# Altium integrated library Microchip dsPIC33F.IntLib: 775 symbols (part 5 of 44)
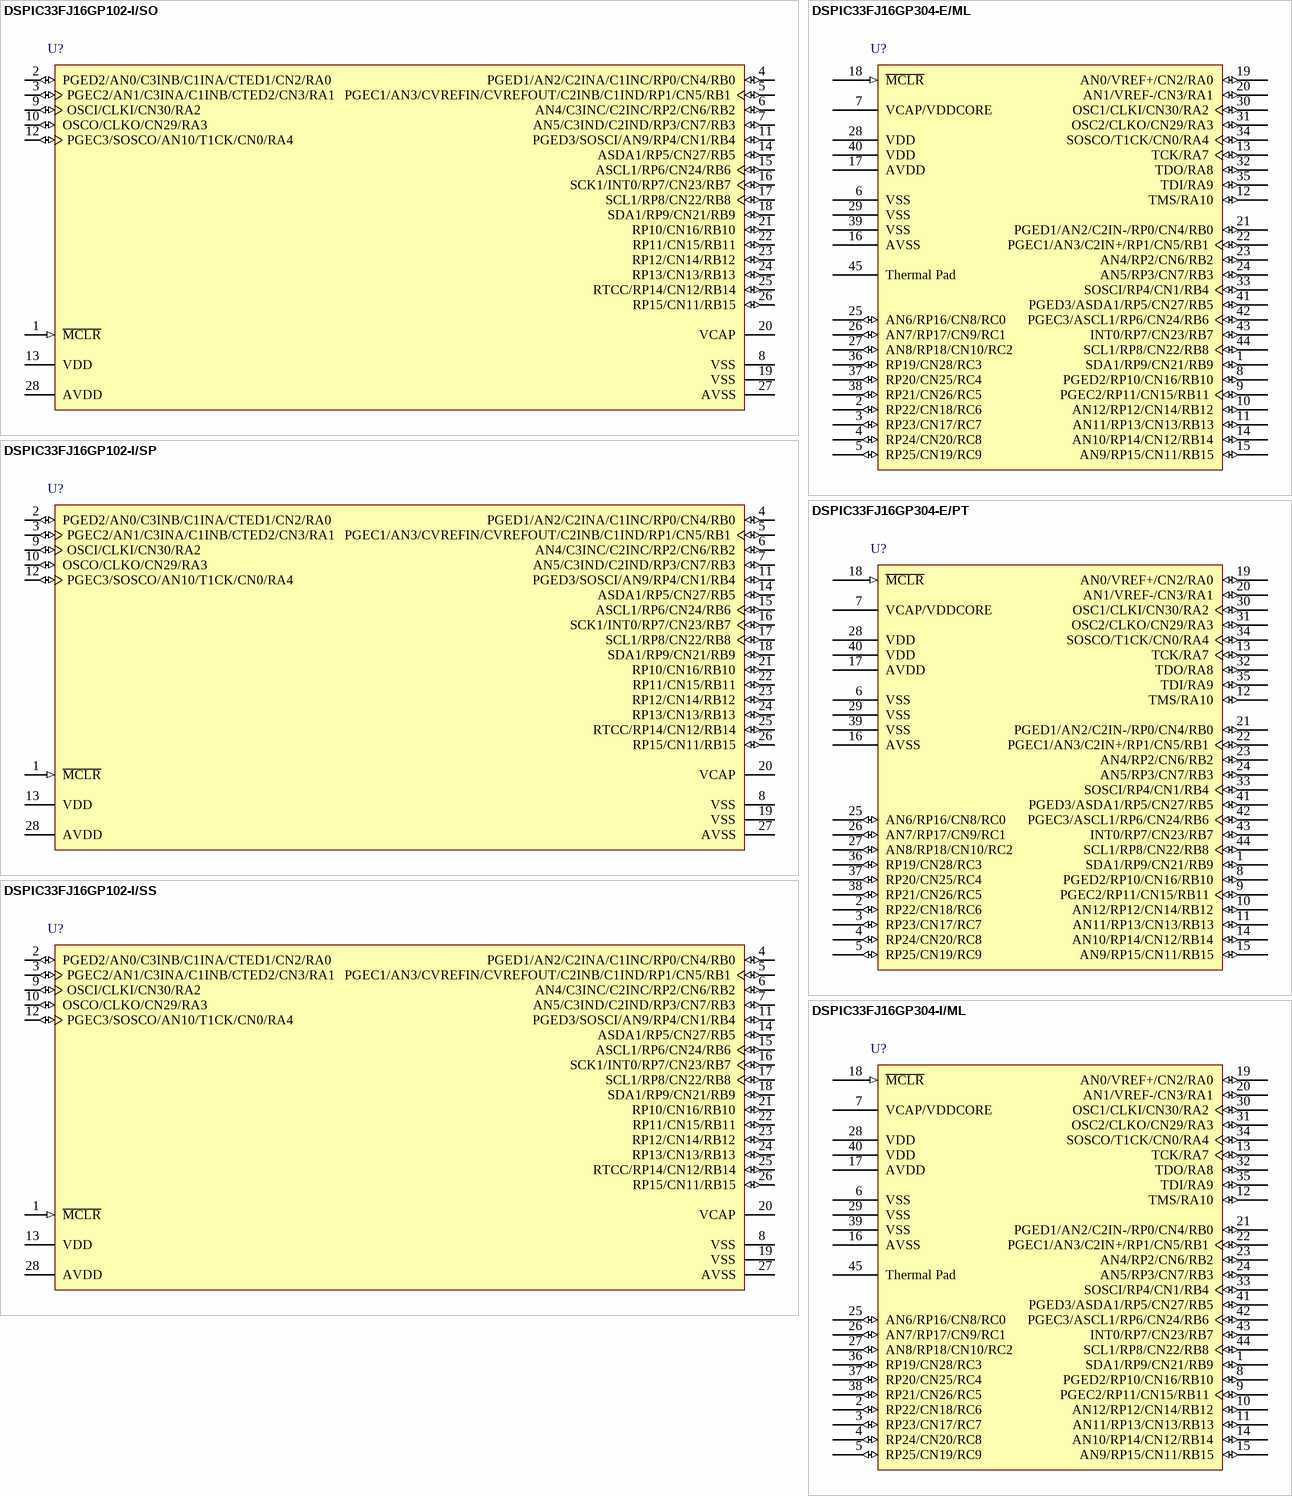
[diagram p162: symbols DSPIC33FJ16GP102-I/SO to DSPIC33FJ16GP304-I/ML]

## DSPIC33FJ16GP102-I/SS
designator U?
16-Bit Digital Signal Controller, 16 MIPS, 21 I/O, PMP16, -40 to 85 degC, 28-pin SSOP (SS28), Tube; Manufacturer: Microchip; PartNumber: DSPIC33FJ16GP102-I/SS; DatasheetVersion: Rev. E; PackageVersion: C04-073B; PackageReference: SSOP-SS28; PackageDescription: 28-Lead Plastic Shrink Small Outline, 10.2 x 5.3 mm Body, 0.65 mm Pitch; Supplier 1: Digi-Key; Supplier Part Number 1: DSPIC33FJ16GP102-I/SS-ND; Supplier 2: Mouser; Supplier Part Number 2: 579-33FJ16GP102ISS; Mounting Technology: Surface Mount; ComponentLink1Description: Manufacturer URL; ComponentLink1URL: http://www.microchip.com; ComponentLink2Description: Datasheet; ComponentLink2URL: http://ww1.microchip.com/downloads/en/DeviceDoc/70652e.pdf; ComponentLink3Description: Package Specification; ComponentLink3URL: http://www.microchip.com/stellent/groups/techpub_sg/documents/packagingspec/en012702.pdf; ComponentLink4Description: Product URL; ComponentLink4URL: http://www.microchip.com/dsPIC33FJ16GP102
footprint MCHP-SSOP-SS28_N (SOP, 28-Leads, Body 10.2x5.3mm, Pitch 0.65mm, IPC Medium Density)
footprint MCHP-SSOP-SS28_L (SOP, 28-Leads, Body 10.2x5.3mm, Pitch 0.65mm, IPC High Density)
footprint MCHP-SSOP-SS28_M (SOP, 28-Leads, Body 10.2x5.3mm, Pitch 0.65mm, IPC Low Density)
pins: 1 ~{MCLR} (in) "Master Clear (Reset) input. This pin is an active-low Reset to the device.", 2 PGED2/AN0/C3INB/C1INA/CTED1/CN2/RA0 (io), 3 PGEC2/AN1/C3INA/C1INB/CTED2/CN3/RA1 (io), 4 PGED1/AN2/C2INA/C1INC/RP0/CN4/RB0 (io), 5 PGEC1/AN3/CVREFIN/CVREFOUT/C2INB/C1IND/RP1/CN5/RB1 (io), 6 AN4/C3INC/C2INC/RP2/CN6/RB2 (io), 7 AN5/C3IND/C2IND/RP3/CN7/RB3 (io), 8 VSS (power) "Ground reference for logic and I/O pins.", 9 OSCI/CLKI/CN30/RA2 (io), 10 OSCO/CLKO/CN29/RA3 (io), 11 PGED3/SOSCI/AN9/RP4/CN1/RB4 (io), 12 PGEC3/SOSCO/AN10/T1CK/CN0/RA4 (io), 13 VDD (power) "Positive supply for peripheral logic and I/O pins.", 14 ASDA1/RP5/CN27/RB5 (io), 15 ASCL1/RP6/CN24/RB6 (io), 16 SCK1/INT0/RP7/CN23/RB7 (io), 17 SCL1/RP8/CN22/RB8 (io), 18 SDA1/RP9/CN21/RB9 (io), 19 VSS (power) "Ground reference for logic and I/O pins.", 20 VCAP "CPU logic filter capacitor connection.", 21 RP10/CN16/RB10 (io), 22 RP11/CN15/RB11 (io), 23 RP12/CN14/RB12 (io), 24 RP13/CN13/RB13 (io), 25 RTCC/RP14/CN12/RB14 (io), 26 RP15/CN11/RB15 (io), 27 AVSS (power) "Ground reference for analog modules. AVSS is connected to VSS in the 18-pin dsPIC33FJXXGP101 and 20-pin dsPIC33FJXXMC101 devices. In all other devices, AVSS is separated from VSS.", 28 AVDD (power) "Positive supply for analog modules. This pin must be connected at all times. AVDD is connected to VDD in the 18-pin dsPIC33FJXXGP101 and 20-pin dsPIC33FJXXMC101 devices. In all other devices, AVDD is separated from VDD."

## DSPIC33FJ16GP304-E/ML
designator U?
High-Performance 16-bit Digital Signal Controller, 16 KB Flash, 2 KB RAM, 44-Pin QFN, Extended High Temperature; Manufacturer: Microchip; PartNumber: DSPIC33FJ16GP304-E/ML; DatasheetVersion: revF, Nov-2009; PackageVersion: revBB, Aug-2009; PackageReference: QFN-ML44; PackageDescription: 44-Lead Plastic Quad Flat, No Lead Package (ML) - 8x8 mm Body [QFN]; Supplier 1: Digi-Key; Supplier Part Number 1: DSPIC33FJ16GP304-E/ML-ND; Supplier 2: Newark; Supplier Part Number 2: 39M8149; Supplier 3: Mouser; Supplier Part Number 3: 579-DSPIC316GP304EML; Mounting Technology: Surface Mount; Code_JEDEC: MO-220; Code_IPC: QFN65P800X800-44V2; ComponentLink1Description: Manufacturer URL; ComponentLink1URL: http://www.microchip.com/; ComponentLink2Description: Datasheet; ComponentLink2URL: http://ww1.microchip.com/downloads/en/DeviceDoc/70290F.pdf; ComponentLink3Description: Package Specification; ComponentLink3URL: http://www.microchip.com/stellent/groups/techpub_sg/documents/packagingspec/en012702.pdf
footprint QFN-ML44_N (QFN, 44-Leads, Body 8x8mm, Pitch 0.65mm, Thermal Pad 6.8x6.8mm, IPC Medium Density)
footprint QFN-ML44_L (QFN, 44-Leads, Body 8x8mm, Pitch 0.65mm, Thermal Pad 6.8x6.8mm, IPC High Density)
footprint QFN-ML44_M (QFN, 44-Leads, Body 8x8mm, Pitch 0.65mm, Thermal Pad 6.8x6.8mm, IPC Low Density)
pins: 1 SDA1/RP9/CN21/RB9 (io), 2 RP22/CN18/RC6 (io), 3 RP23/CN17/RC7 (io), 4 RP24/CN20/RC8 (io), 5 RP25/CN19/RC9 (io), 6 VSS (power), 7 VCAP/VDDCORE (power), 8 PGED2/RP10/CN16/RB10 (io), 9 PGEC2/RP11/CN15/RB11 (io), 10 AN12/RP12/CN14/RB12 (io), 11 AN11/RP13/CN13/RB13 (io), 12 TMS/RA10 (io), 13 TCK/RA7 (io), 14 AN10/RP14/CN12/RB14 (io), 15 AN9/RP15/CN11/RB15 (io), 16 AVSS (power), 17 AVDD (power), 18 ~{MCLR} (in), 19 AN0/VREF+/CN2/RA0 (io), 20 AN1/VREF-/CN3/RA1 (io), 21 PGED1/AN2/C2IN-/RP0/CN4/RB0 (io), 22 PGEC1/AN3/C2IN+/RP1/CN5/RB1 (io), 23 AN4/RP2/CN6/RB2 (io), 24 AN5/RP3/CN7/RB3 (io), 25 AN6/RP16/CN8/RC0 (io), 26 AN7/RP17/CN9/RC1 (io), 27 AN8/RP18/CN10/RC2 (io), 28 VDD (power), 29 VSS (power), 30 OSC1/CLKI/CN30/RA2 (io), 31 OSC2/CLKO/CN29/RA3 (io), 32 TDO/RA8 (io), 33 SOSCI/RP4/CN1/RB4 (io), 34 SOSCO/T1CK/CN0/RA4 (io), 35 TDI/RA9 (io), 36 RP19/CN28/RC3 (io), 37 RP20/CN25/RC4 (io), 38 RP21/CN26/RC5 (io), 39 VSS (power), 40 VDD (power), 41 PGED3/ASDA1/RP5/CN27/RB5 (io), 42 PGEC3/ASCL1/RP6/CN24/RB6 (io), 43 INT0/RP7/CN23/RB7 (io), 44 SCL1/RP8/CN22/RB8 (io), 45 Thermal Pad

## DSPIC33FJ16GP304-E/PT
designator U?
High-Performance 16-bit Digital Signal Controller, 16 KB Flash, 2 KB RAM, 44-Pin TQFP, Extended High Temperature; Manufacturer: Microchip; PartNumber: DSPIC33FJ16GP304-E/PT; DatasheetVersion: revF, Nov-2009; PackageVersion: revBB, Aug-2009; PackageReference: TQFP-PT44; PackageDescription: 44-Lead Plastic Thin Quad Flatpack (PT) - 10x10x1mm Body, 2.00mm [TQFP]; Supplier 1: Digi-Key; Supplier Part Number 1: DSPIC33FJ16GP304-E/PT-ND; Supplier 2: Mouser; Supplier Part Number 2: 579-DSPIC316GP304EPT; Mounting Technology: Surface Mount; Code_JEDEC: MS-026; ComponentLink1Description: Manufacturer URL; ComponentLink1URL: http://www.microchip.com/; ComponentLink2Description: Datasheet; ComponentLink2URL: http://ww1.microchip.com/downloads/en/DeviceDoc/70290F.pdf; ComponentLink3Description: Package Specification; ComponentLink3URL: http://www.microchip.com/stellent/groups/techpub_sg/documents/packagingspec/en012702.pdf
footprint TQFP-PT44_N (Thin QFP, 44-Leads, Body 10x10mm, Pitch 0.8mm, IPC Medium Density)
footprint TQFP-PT44_L (Thin QFP, 44-Leads, Body 10x10mm, Pitch 0.8mm, IPC High Density)
footprint TQFP-PT44_M (Thin QFP, 44-Leads, Body 10x10mm, Pitch 0.8mm, IPC Low Density)
pins: 1 SDA1/RP9/CN21/RB9 (io), 2 RP22/CN18/RC6 (io), 3 RP23/CN17/RC7 (io), 4 RP24/CN20/RC8 (io), 5 RP25/CN19/RC9 (io), 6 VSS (power), 7 VCAP/VDDCORE (power), 8 PGED2/RP10/CN16/RB10 (io), 9 PGEC2/RP11/CN15/RB11 (io), 10 AN12/RP12/CN14/RB12 (io), 11 AN11/RP13/CN13/RB13 (io), 12 TMS/RA10 (io), 13 TCK/RA7 (io), 14 AN10/RP14/CN12/RB14 (io), 15 AN9/RP15/CN11/RB15 (io), 16 AVSS (power), 17 AVDD (power), 18 ~{MCLR} (in), 19 AN0/VREF+/CN2/RA0 (io), 20 AN1/VREF-/CN3/RA1 (io), 21 PGED1/AN2/C2IN-/RP0/CN4/RB0 (io), 22 PGEC1/AN3/C2IN+/RP1/CN5/RB1 (io), 23 AN4/RP2/CN6/RB2 (io), 24 AN5/RP3/CN7/RB3 (io), 25 AN6/RP16/CN8/RC0 (io), 26 AN7/RP17/CN9/RC1 (io), 27 AN8/RP18/CN10/RC2 (io), 28 VDD (power), 29 VSS (power), 30 OSC1/CLKI/CN30/RA2 (io), 31 OSC2/CLKO/CN29/RA3 (io), 32 TDO/RA8 (io), 33 SOSCI/RP4/CN1/RB4 (io), 34 SOSCO/T1CK/CN0/RA4 (io), 35 TDI/RA9 (io), 36 RP19/CN28/RC3 (io), 37 RP20/CN25/RC4 (io), 38 RP21/CN26/RC5 (io), 39 VSS (power), 40 VDD (power), 41 PGED3/ASDA1/RP5/CN27/RB5 (io), 42 PGEC3/ASCL1/RP6/CN24/RB6 (io), 43 INT0/RP7/CN23/RB7 (io), 44 SCL1/RP8/CN22/RB8 (io)

## DSPIC33FJ16GP304-I/ML
designator U?
High-Performance 16-bit Digital Signal Controller, 16 KB Flash, 2 KB RAM, 44-Pin QFN, Industrial Temperature; Manufacturer: Microchip; PartNumber: DSPIC33FJ16GP304-I/ML; DatasheetVersion: revF, Nov-2009; PackageVersion: revBB, Aug-2009; PackageReference: QFN-ML44; PackageDescription: 44-Lead Plastic Quad Flat, No Lead Package (ML) - 8x8 mm Body [QFN]; Supplier 1: Digi-Key; Supplier Part Number 1: DSPIC33FJ16GP304-I/ML-ND; Supplier 2: Farnell; Supplier Part Number 2: 1576907; Supplier 3: Newark; Supplier Part Number 3: 39M8151; Supplier 4: Mouser; Supplier Part Number 4: 579-DSPICJ16GP304IML; Mounting Technology: Surface Mount; Code_JEDEC: MO-220; Code_IPC: QFN65P800X800-44V2; ComponentLink1Description: Manufacturer URL; ComponentLink1URL: http://www.microchip.com/; ComponentLink2Description: Datasheet; ComponentLink2URL: http://ww1.microchip.com/downloads/en/DeviceDoc/70290F.pdf; ComponentLink3Description: Package Specification; ComponentLink3URL: http://www.microchip.com/stellent/groups/techpub_sg/documents/packagingspec/en012702.pdf
footprint QFN-ML44_N (QFN, 44-Leads, Body 8x8mm, Pitch 0.65mm, Thermal Pad 6.8x6.8mm, IPC Medium Density)
footprint QFN-ML44_L (QFN, 44-Leads, Body 8x8mm, Pitch 0.65mm, Thermal Pad 6.8x6.8mm, IPC High Density)
footprint QFN-ML44_M (QFN, 44-Leads, Body 8x8mm, Pitch 0.65mm, Thermal Pad 6.8x6.8mm, IPC Low Density)
pins: 1 SDA1/RP9/CN21/RB9 (io), 2 RP22/CN18/RC6 (io), 3 RP23/CN17/RC7 (io), 4 RP24/CN20/RC8 (io), 5 RP25/CN19/RC9 (io), 6 VSS (power), 7 VCAP/VDDCORE (power), 8 PGED2/RP10/CN16/RB10 (io), 9 PGEC2/RP11/CN15/RB11 (io), 10 AN12/RP12/CN14/RB12 (io), 11 AN11/RP13/CN13/RB13 (io), 12 TMS/RA10 (io), 13 TCK/RA7 (io), 14 AN10/RP14/CN12/RB14 (io), 15 AN9/RP15/CN11/RB15 (io), 16 AVSS (power), 17 AVDD (power), 18 ~{MCLR} (in), 19 AN0/VREF+/CN2/RA0 (io), 20 AN1/VREF-/CN3/RA1 (io), 21 PGED1/AN2/C2IN-/RP0/CN4/RB0 (io), 22 PGEC1/AN3/C2IN+/RP1/CN5/RB1 (io), 23 AN4/RP2/CN6/RB2 (io), 24 AN5/RP3/CN7/RB3 (io), 25 AN6/RP16/CN8/RC0 (io), 26 AN7/RP17/CN9/RC1 (io), 27 AN8/RP18/CN10/RC2 (io), 28 VDD (power), 29 VSS (power), 30 OSC1/CLKI/CN30/RA2 (io), 31 OSC2/CLKO/CN29/RA3 (io), 32 TDO/RA8 (io), 33 SOSCI/RP4/CN1/RB4 (io), 34 SOSCO/T1CK/CN0/RA4 (io), 35 TDI/RA9 (io), 36 RP19/CN28/RC3 (io), 37 RP20/CN25/RC4 (io), 38 RP21/CN26/RC5 (io), 39 VSS (power), 40 VDD (power), 41 PGED3/ASDA1/RP5/CN27/RB5 (io), 42 PGEC3/ASCL1/RP6/CN24/RB6 (io), 43 INT0/RP7/CN23/RB7 (io), 44 SCL1/RP8/CN22/RB8 (io), 45 Thermal Pad

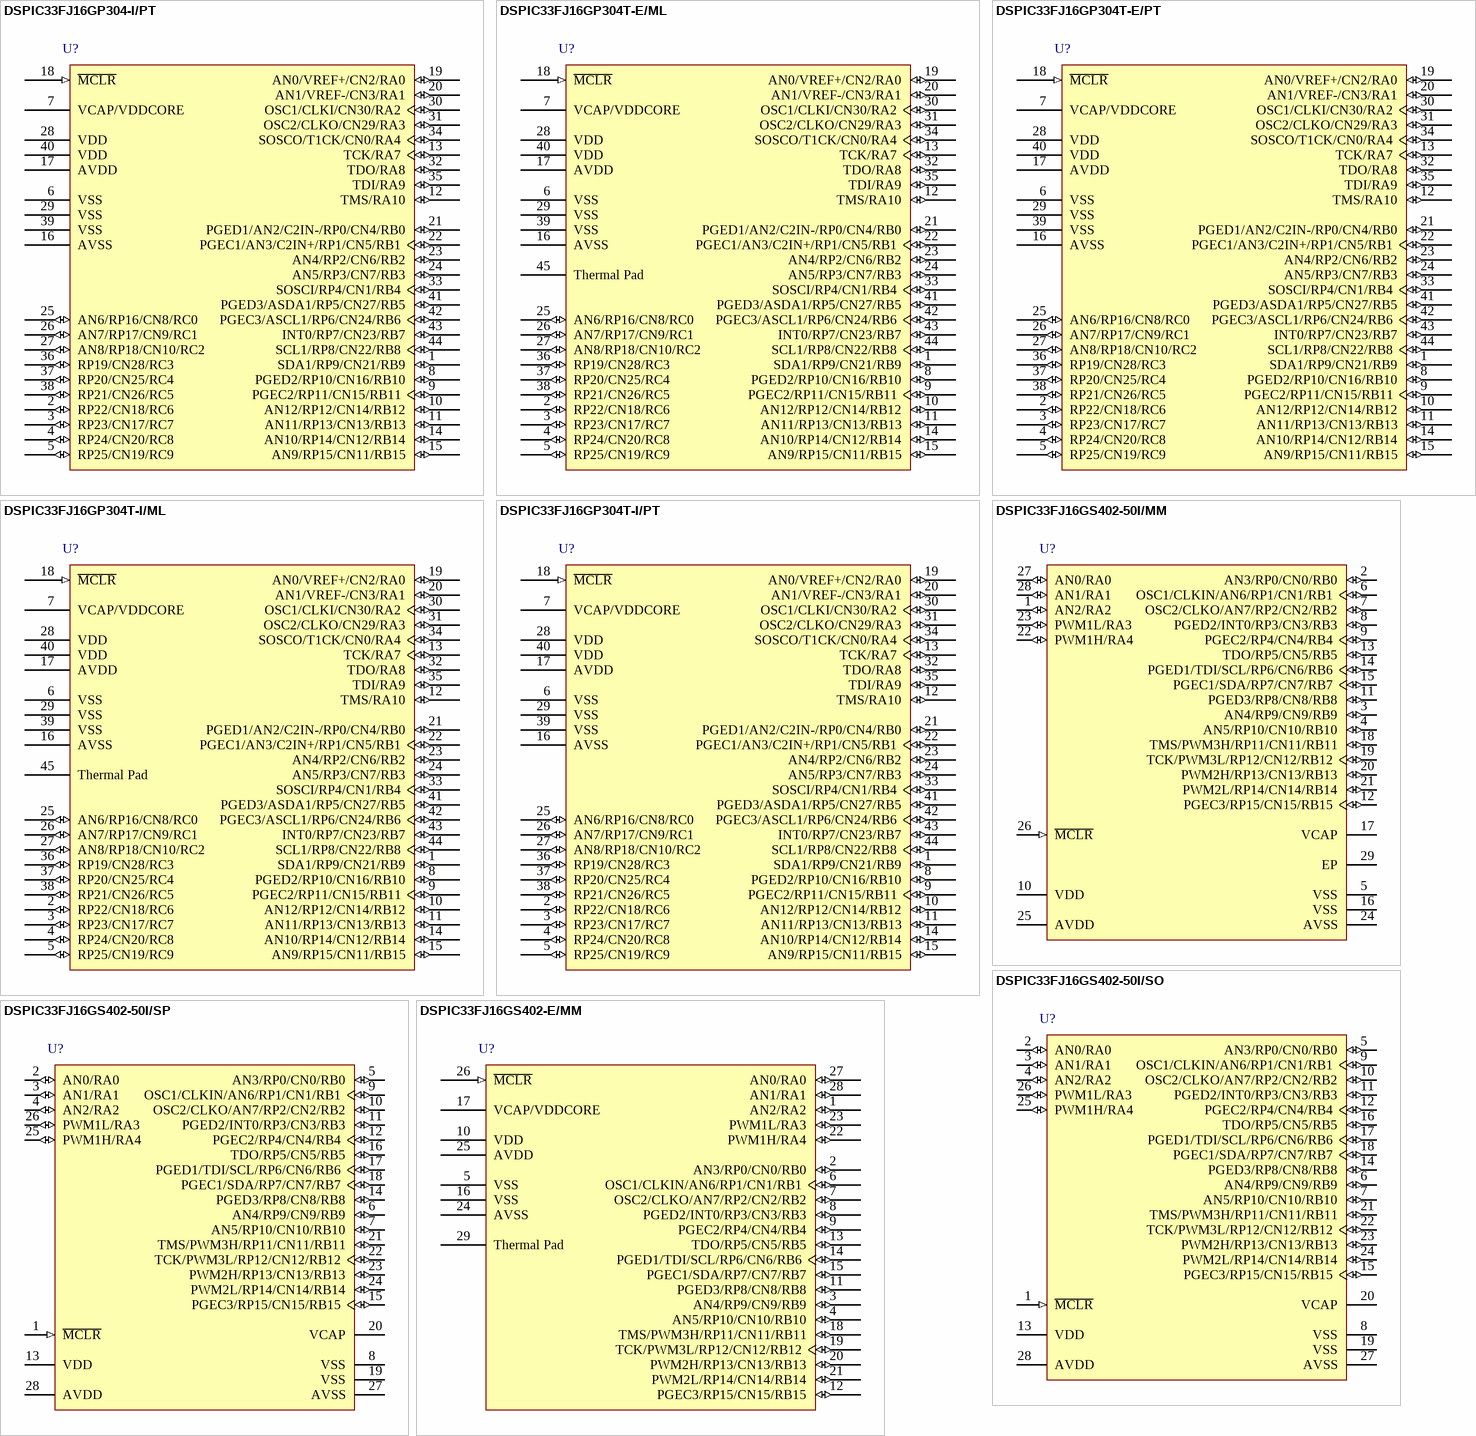
[diagram p11: symbols DSPIC33FJ16GP304-I/PT to DSPIC33FJ16GS402-E/MM]

## DSPIC33FJ16GP304-I/PT
designator U?
High-Performance 16-bit Digital Signal Controller, 16 KB Flash, 2 KB RAM, 44-Pin TQFP, Industrial Temperature; Manufacturer: Microchip; PartNumber: DSPIC33FJ16GP304-I/PT; DatasheetVersion: revF, Nov-2009; PackageVersion: revBB, Aug-2009; PackageReference: TQFP-PT44; PackageDescription: 44-Lead Plastic Thin Quad Flatpack (PT) - 10x10x1mm Body, 2.00mm [TQFP]; Supplier 1: Digi-Key; Supplier Part Number 1: DSPIC33FJ16GP304-I/PT-ND; Supplier 2: Farnell; Supplier Part Number 2: 1576908MPKG; Supplier 3: Farnell; Supplier Part Number 3: 1576908; Supplier 4: Newark; Supplier Part Number 4: 39M8152; Supplier 5: Mouser; Supplier Part Number 5: 579-DSPICJ16GP304IPT; Mounting Technology: Surface Mount; Code_JEDEC: MS-026; ComponentLink1Description: Manufacturer URL; ComponentLink1URL: http://www.microchip.com/; ComponentLink2Description: Datasheet; ComponentLink2URL: http://ww1.microchip.com/downloads/en/DeviceDoc/70290F.pdf; ComponentLink3Description: Package Specification; ComponentLink3URL: http://www.microchip.com/stellent/groups/techpub_sg/documents/packagingspec/en012702.pdf
footprint TQFP-PT44_N (Thin QFP, 44-Leads, Body 10x10mm, Pitch 0.8mm, IPC Medium Density)
footprint TQFP-PT44_L (Thin QFP, 44-Leads, Body 10x10mm, Pitch 0.8mm, IPC High Density)
footprint TQFP-PT44_M (Thin QFP, 44-Leads, Body 10x10mm, Pitch 0.8mm, IPC Low Density)
pins: 1 SDA1/RP9/CN21/RB9 (io), 2 RP22/CN18/RC6 (io), 3 RP23/CN17/RC7 (io), 4 RP24/CN20/RC8 (io), 5 RP25/CN19/RC9 (io), 6 VSS (power), 7 VCAP/VDDCORE (power), 8 PGED2/RP10/CN16/RB10 (io), 9 PGEC2/RP11/CN15/RB11 (io), 10 AN12/RP12/CN14/RB12 (io), 11 AN11/RP13/CN13/RB13 (io), 12 TMS/RA10 (io), 13 TCK/RA7 (io), 14 AN10/RP14/CN12/RB14 (io), 15 AN9/RP15/CN11/RB15 (io), 16 AVSS (power), 17 AVDD (power), 18 ~{MCLR} (in), 19 AN0/VREF+/CN2/RA0 (io), 20 AN1/VREF-/CN3/RA1 (io), 21 PGED1/AN2/C2IN-/RP0/CN4/RB0 (io), 22 PGEC1/AN3/C2IN+/RP1/CN5/RB1 (io), 23 AN4/RP2/CN6/RB2 (io), 24 AN5/RP3/CN7/RB3 (io), 25 AN6/RP16/CN8/RC0 (io), 26 AN7/RP17/CN9/RC1 (io), 27 AN8/RP18/CN10/RC2 (io), 28 VDD (power), 29 VSS (power), 30 OSC1/CLKI/CN30/RA2 (io), 31 OSC2/CLKO/CN29/RA3 (io), 32 TDO/RA8 (io), 33 SOSCI/RP4/CN1/RB4 (io), 34 SOSCO/T1CK/CN0/RA4 (io), 35 TDI/RA9 (io), 36 RP19/CN28/RC3 (io), 37 RP20/CN25/RC4 (io), 38 RP21/CN26/RC5 (io), 39 VSS (power), 40 VDD (power), 41 PGED3/ASDA1/RP5/CN27/RB5 (io), 42 PGEC3/ASCL1/RP6/CN24/RB6 (io), 43 INT0/RP7/CN23/RB7 (io), 44 SCL1/RP8/CN22/RB8 (io)

## DSPIC33FJ16GP304T-E/ML
designator U?
High-Performance 16-bit Digital Signal Controller, 16 KB Flash, 2 KB RAM, 44-Pin QFN, Extended High Temperature, Tape and Reel; Manufacturer: Microchip; PartNumber: DSPIC33FJ16GP304T-E/ML; DatasheetVersion: revF, Nov-2009; PackageVersion: revBB, Aug-2009; PackageReference: QFN-ML44; PackageDescription: 44-Lead Plastic Quad Flat, No Lead Package (ML) - 8x8 mm Body [QFN]; Mounting Technology: Surface Mount; Code_JEDEC: MO-220; Code_IPC: QFN65P800X800-44V2; ComponentLink1Description: Manufacturer URL; ComponentLink1URL: http://www.microchip.com/; ComponentLink2Description: Datasheet; ComponentLink2URL: http://ww1.microchip.com/downloads/en/DeviceDoc/70290F.pdf; ComponentLink3Description: Package Specification; ComponentLink3URL: http://www.microchip.com/stellent/groups/techpub_sg/documents/packagingspec/en012702.pdf
footprint QFN-ML44_N (QFN, 44-Leads, Body 8x8mm, Pitch 0.65mm, Thermal Pad 6.8x6.8mm, IPC Medium Density)
footprint QFN-ML44_L (QFN, 44-Leads, Body 8x8mm, Pitch 0.65mm, Thermal Pad 6.8x6.8mm, IPC High Density)
footprint QFN-ML44_M (QFN, 44-Leads, Body 8x8mm, Pitch 0.65mm, Thermal Pad 6.8x6.8mm, IPC Low Density)
pins: 1 SDA1/RP9/CN21/RB9 (io), 2 RP22/CN18/RC6 (io), 3 RP23/CN17/RC7 (io), 4 RP24/CN20/RC8 (io), 5 RP25/CN19/RC9 (io), 6 VSS (power), 7 VCAP/VDDCORE (power), 8 PGED2/RP10/CN16/RB10 (io), 9 PGEC2/RP11/CN15/RB11 (io), 10 AN12/RP12/CN14/RB12 (io), 11 AN11/RP13/CN13/RB13 (io), 12 TMS/RA10 (io), 13 TCK/RA7 (io), 14 AN10/RP14/CN12/RB14 (io), 15 AN9/RP15/CN11/RB15 (io), 16 AVSS (power), 17 AVDD (power), 18 ~{MCLR} (in), 19 AN0/VREF+/CN2/RA0 (io), 20 AN1/VREF-/CN3/RA1 (io), 21 PGED1/AN2/C2IN-/RP0/CN4/RB0 (io), 22 PGEC1/AN3/C2IN+/RP1/CN5/RB1 (io), 23 AN4/RP2/CN6/RB2 (io), 24 AN5/RP3/CN7/RB3 (io), 25 AN6/RP16/CN8/RC0 (io), 26 AN7/RP17/CN9/RC1 (io), 27 AN8/RP18/CN10/RC2 (io), 28 VDD (power), 29 VSS (power), 30 OSC1/CLKI/CN30/RA2 (io), 31 OSC2/CLKO/CN29/RA3 (io), 32 TDO/RA8 (io), 33 SOSCI/RP4/CN1/RB4 (io), 34 SOSCO/T1CK/CN0/RA4 (io), 35 TDI/RA9 (io), 36 RP19/CN28/RC3 (io), 37 RP20/CN25/RC4 (io), 38 RP21/CN26/RC5 (io), 39 VSS (power), 40 VDD (power), 41 PGED3/ASDA1/RP5/CN27/RB5 (io), 42 PGEC3/ASCL1/RP6/CN24/RB6 (io), 43 INT0/RP7/CN23/RB7 (io), 44 SCL1/RP8/CN22/RB8 (io), 45 Thermal Pad

## DSPIC33FJ16GP304T-E/PT
designator U?
High-Performance 16-bit Digital Signal Controller, 16 KB Flash, 2 KB RAM, 44-Pin TQFP, Extended High Temperature, Tape and Reel; Manufacturer: Microchip; PartNumber: DSPIC33FJ16GP304T-E/PT; DatasheetVersion: revF, Nov-2009; PackageVersion: revBB, Aug-2009; PackageReference: TQFP-PT44; PackageDescription: 44-Lead Plastic Thin Quad Flatpack (PT) - 10x10x1mm Body, 2.00mm [TQFP]; Mounting Technology: Surface Mount; Code_JEDEC: MS-026; ComponentLink1Description: Manufacturer URL; ComponentLink1URL: http://www.microchip.com/; ComponentLink2Description: Datasheet; ComponentLink2URL: http://ww1.microchip.com/downloads/en/DeviceDoc/70290F.pdf; ComponentLink3Description: Package Specification; ComponentLink3URL: http://www.microchip.com/stellent/groups/techpub_sg/documents/packagingspec/en012702.pdf
footprint TQFP-PT44_N (Thin QFP, 44-Leads, Body 10x10mm, Pitch 0.8mm, IPC Medium Density)
footprint TQFP-PT44_L (Thin QFP, 44-Leads, Body 10x10mm, Pitch 0.8mm, IPC High Density)
footprint TQFP-PT44_M (Thin QFP, 44-Leads, Body 10x10mm, Pitch 0.8mm, IPC Low Density)
pins: 1 SDA1/RP9/CN21/RB9 (io), 2 RP22/CN18/RC6 (io), 3 RP23/CN17/RC7 (io), 4 RP24/CN20/RC8 (io), 5 RP25/CN19/RC9 (io), 6 VSS (power), 7 VCAP/VDDCORE (power), 8 PGED2/RP10/CN16/RB10 (io), 9 PGEC2/RP11/CN15/RB11 (io), 10 AN12/RP12/CN14/RB12 (io), 11 AN11/RP13/CN13/RB13 (io), 12 TMS/RA10 (io), 13 TCK/RA7 (io), 14 AN10/RP14/CN12/RB14 (io), 15 AN9/RP15/CN11/RB15 (io), 16 AVSS (power), 17 AVDD (power), 18 ~{MCLR} (in), 19 AN0/VREF+/CN2/RA0 (io), 20 AN1/VREF-/CN3/RA1 (io), 21 PGED1/AN2/C2IN-/RP0/CN4/RB0 (io), 22 PGEC1/AN3/C2IN+/RP1/CN5/RB1 (io), 23 AN4/RP2/CN6/RB2 (io), 24 AN5/RP3/CN7/RB3 (io), 25 AN6/RP16/CN8/RC0 (io), 26 AN7/RP17/CN9/RC1 (io), 27 AN8/RP18/CN10/RC2 (io), 28 VDD (power), 29 VSS (power), 30 OSC1/CLKI/CN30/RA2 (io), 31 OSC2/CLKO/CN29/RA3 (io), 32 TDO/RA8 (io), 33 SOSCI/RP4/CN1/RB4 (io), 34 SOSCO/T1CK/CN0/RA4 (io), 35 TDI/RA9 (io), 36 RP19/CN28/RC3 (io), 37 RP20/CN25/RC4 (io), 38 RP21/CN26/RC5 (io), 39 VSS (power), 40 VDD (power), 41 PGED3/ASDA1/RP5/CN27/RB5 (io), 42 PGEC3/ASCL1/RP6/CN24/RB6 (io), 43 INT0/RP7/CN23/RB7 (io), 44 SCL1/RP8/CN22/RB8 (io)

## DSPIC33FJ16GP304T-I/ML
designator U?
High-Performance 16-bit Digital Signal Controller, 16 KB Flash, 2 KB RAM, 44-Pin QFN, Industrial Temperature, Tape and Reel; Manufacturer: Microchip; PartNumber: DSPIC33FJ16GP304T-I/ML; DatasheetVersion: revF, Nov-2009; PackageVersion: revBB, Aug-2009; PackageReference: QFN-ML44; PackageDescription: 44-Lead Plastic Quad Flat, No Lead Package (ML) - 8x8 mm Body [QFN]; Supplier 1: Digi-Key; Supplier Part Number 1: DSPIC33FJ16GP304T-I/MLTR-ND; Supplier 2: Mouser; Supplier Part Number 2: 579-DSPIC16GP304TIML; Mounting Technology: Surface Mount; Code_JEDEC: MO-220; Code_IPC: QFN65P800X800-44V2; ComponentLink1Description: Manufacturer URL; ComponentLink1URL: http://www.microchip.com/; ComponentLink2Description: Datasheet; ComponentLink2URL: http://ww1.microchip.com/downloads/en/DeviceDoc/70290F.pdf; ComponentLink3Description: Package Specification; ComponentLink3URL: http://www.microchip.com/stellent/groups/techpub_sg/documents/packagingspec/en012702.pdf
footprint QFN-ML44_N (QFN, 44-Leads, Body 8x8mm, Pitch 0.65mm, Thermal Pad 6.8x6.8mm, IPC Medium Density)
footprint QFN-ML44_L (QFN, 44-Leads, Body 8x8mm, Pitch 0.65mm, Thermal Pad 6.8x6.8mm, IPC High Density)
footprint QFN-ML44_M (QFN, 44-Leads, Body 8x8mm, Pitch 0.65mm, Thermal Pad 6.8x6.8mm, IPC Low Density)
pins: 1 SDA1/RP9/CN21/RB9 (io), 2 RP22/CN18/RC6 (io), 3 RP23/CN17/RC7 (io), 4 RP24/CN20/RC8 (io), 5 RP25/CN19/RC9 (io), 6 VSS (power), 7 VCAP/VDDCORE (power), 8 PGED2/RP10/CN16/RB10 (io), 9 PGEC2/RP11/CN15/RB11 (io), 10 AN12/RP12/CN14/RB12 (io), 11 AN11/RP13/CN13/RB13 (io), 12 TMS/RA10 (io), 13 TCK/RA7 (io), 14 AN10/RP14/CN12/RB14 (io), 15 AN9/RP15/CN11/RB15 (io), 16 AVSS (power), 17 AVDD (power), 18 ~{MCLR} (in), 19 AN0/VREF+/CN2/RA0 (io), 20 AN1/VREF-/CN3/RA1 (io), 21 PGED1/AN2/C2IN-/RP0/CN4/RB0 (io), 22 PGEC1/AN3/C2IN+/RP1/CN5/RB1 (io), 23 AN4/RP2/CN6/RB2 (io), 24 AN5/RP3/CN7/RB3 (io), 25 AN6/RP16/CN8/RC0 (io), 26 AN7/RP17/CN9/RC1 (io), 27 AN8/RP18/CN10/RC2 (io), 28 VDD (power), 29 VSS (power), 30 OSC1/CLKI/CN30/RA2 (io), 31 OSC2/CLKO/CN29/RA3 (io), 32 TDO/RA8 (io), 33 SOSCI/RP4/CN1/RB4 (io), 34 SOSCO/T1CK/CN0/RA4 (io), 35 TDI/RA9 (io), 36 RP19/CN28/RC3 (io), 37 RP20/CN25/RC4 (io), 38 RP21/CN26/RC5 (io), 39 VSS (power), 40 VDD (power), 41 PGED3/ASDA1/RP5/CN27/RB5 (io), 42 PGEC3/ASCL1/RP6/CN24/RB6 (io), 43 INT0/RP7/CN23/RB7 (io), 44 SCL1/RP8/CN22/RB8 (io), 45 Thermal Pad

## DSPIC33FJ16GP304T-I/PT
designator U?
High-Performance 16-bit Digital Signal Controller, 16 KB Flash, 2 KB RAM, 44-Pin TQFP, Industrial Temperature, Tape and Reel; Manufacturer: Microchip; PartNumber: DSPIC33FJ16GP304T-I/PT; DatasheetVersion: revF, Nov-2009; PackageVersion: revBB, Aug-2009; PackageReference: TQFP-PT44; PackageDescription: 44-Lead Plastic Thin Quad Flatpack (PT) - 10x10x1mm Body, 2.00mm [TQFP]; Supplier 1: Digi-Key; Supplier Part Number 1: DSPIC33FJ16GP304T-I/PTTR-ND; Supplier 2: Mouser; Supplier Part Number 2: 579-DSPIC16GP304TIPT; Mounting Technology: Surface Mount; Code_JEDEC: MS-026; ComponentLink1Description: Manufacturer URL; ComponentLink1URL: http://www.microchip.com/; ComponentLink2Description: Datasheet; ComponentLink2URL: http://ww1.microchip.com/downloads/en/DeviceDoc/70290F.pdf; ComponentLink3Description: Package Specification; ComponentLink3URL: http://www.microchip.com/stellent/groups/techpub_sg/documents/packagingspec/en012702.pdf
footprint TQFP-PT44_N (Thin QFP, 44-Leads, Body 10x10mm, Pitch 0.8mm, IPC Medium Density)
footprint TQFP-PT44_L (Thin QFP, 44-Leads, Body 10x10mm, Pitch 0.8mm, IPC High Density)
footprint TQFP-PT44_M (Thin QFP, 44-Leads, Body 10x10mm, Pitch 0.8mm, IPC Low Density)
pins: 1 SDA1/RP9/CN21/RB9 (io), 2 RP22/CN18/RC6 (io), 3 RP23/CN17/RC7 (io), 4 RP24/CN20/RC8 (io), 5 RP25/CN19/RC9 (io), 6 VSS (power), 7 VCAP/VDDCORE (power), 8 PGED2/RP10/CN16/RB10 (io), 9 PGEC2/RP11/CN15/RB11 (io), 10 AN12/RP12/CN14/RB12 (io), 11 AN11/RP13/CN13/RB13 (io), 12 TMS/RA10 (io), 13 TCK/RA7 (io), 14 AN10/RP14/CN12/RB14 (io), 15 AN9/RP15/CN11/RB15 (io), 16 AVSS (power), 17 AVDD (power), 18 ~{MCLR} (in), 19 AN0/VREF+/CN2/RA0 (io), 20 AN1/VREF-/CN3/RA1 (io), 21 PGED1/AN2/C2IN-/RP0/CN4/RB0 (io), 22 PGEC1/AN3/C2IN+/RP1/CN5/RB1 (io), 23 AN4/RP2/CN6/RB2 (io), 24 AN5/RP3/CN7/RB3 (io), 25 AN6/RP16/CN8/RC0 (io), 26 AN7/RP17/CN9/RC1 (io), 27 AN8/RP18/CN10/RC2 (io), 28 VDD (power), 29 VSS (power), 30 OSC1/CLKI/CN30/RA2 (io), 31 OSC2/CLKO/CN29/RA3 (io), 32 TDO/RA8 (io), 33 SOSCI/RP4/CN1/RB4 (io), 34 SOSCO/T1CK/CN0/RA4 (io), 35 TDI/RA9 (io), 36 RP19/CN28/RC3 (io), 37 RP20/CN25/RC4 (io), 38 RP21/CN26/RC5 (io), 39 VSS (power), 40 VDD (power), 41 PGED3/ASDA1/RP5/CN27/RB5 (io), 42 PGEC3/ASCL1/RP6/CN24/RB6 (io), 43 INT0/RP7/CN23/RB7 (io), 44 SCL1/RP8/CN22/RB8 (io)

## DSPIC33FJ16GS402-50I/MM
designator U?
16-Bit Digital Signal Controller with High-Speed PWM, ADC, 50 MIPS, 21 I/O, GPIO, -40 to 85 degC, 28-pin QFN (MM28), Tube; Manufacturer: Microchip; PartNumber: DSPIC33FJ16GS402-50I/MM; DatasheetVersion: Rev. F; PackageVersion: C04-124C; PackageReference: QFN-MM28; PackageDescription: 28-Lead Plastic Quad Flat, 6 x 6 mm Body, 0.65 mm Pitch; Supplier 1: Digi-Key; Supplier Part Number 1: DSPIC33FJ16GS402-50I/MM-ND; Supplier 2: Mouser; Supplier Part Number 2: 579-33F16GS40250IMM; Mounting Technology: Surface Mount; ComponentLink1Description: Manufacturer URL; ComponentLink1URL: http://www.microchip.com; ComponentLink2Description: Datasheet; ComponentLink2URL: http://ww1.microchip.com/downloads/en/DeviceDoc/70318F.pdf; ComponentLink3Description: Package Specification; ComponentLink3URL: http://www.microchip.com/stellent/groups/techpub_sg/documents/packagingspec/en012702.pdf; ComponentLink4Description: Product URL; ComponentLink4URL: http://www.microchip.com/dsPIC33FJ16GS402
footprint MCHP-QFN-S-MM28_N (QFN, 28-Leads, Body 6x6mm, Pitch 0.65mm, Thermal Pad 4.175x4.175mm, IPC Medium Density)
footprint MCHP-QFN-S-MM28_L (QFN, 28-Leads, Body 6x6mm, Pitch 0.65mm, Thermal Pad 4.175x4.175mm, IPC High Density)
footprint MCHP-QFN-S-MM28_M (QFN, 28-Leads, Body 6x6mm, Pitch 0.65mm, Thermal Pad 4.175x4.175mm, IPC Low Density)
pins: 1 AN2/RA2 (io), 2 AN3/RP0/CN0/RB0 (io), 3 AN4/RP9/CN9/RB9 (io), 4 AN5/RP10/CN10/RB10 (io), 5 VSS (power) "Ground reference for logic and I/O pins.", 6 OSC1/CLKIN/AN6/RP1/CN1/RB1 (io), 7 OSC2/CLKO/AN7/RP2/CN2/RB2 (io), 8 PGED2/INT0/RP3/CN3/RB3 (io), 9 PGEC2/RP4/CN4/RB4 (io), 10 VDD (power) "Positive supply for peripheral logic and I/O pins.", 11 PGED3/RP8/CN8/RB8 (io), 12 PGEC3/RP15/CN15/RB15 (io), 13 TDO/RP5/CN5/RB5 (io), 14 PGED1/TDI/SCL/RP6/CN6/RB6 (io), 15 PGEC1/SDA/RP7/CN7/RB7 (io), 16 VSS (power) "Ground reference for logic and I/O pins.", 17 VCAP "CPU logic filter capacitor connection.", 18 TMS/PWM3H/RP11/CN11/RB11 (io), 19 TCK/PWM3L/RP12/CN12/RB12 (io), 20 PWM2H/RP13/CN13/RB13 (io), 21 PWM2L/RP14/CN14/RB14 (io), 22 PWM1H/RA4 (io), 23 PWM1L/RA3 (io), 24 AVSS (power) "Ground reference for analog modules. AVSS is connected to VSS.", 25 AVDD (power) "Positive supply for analog modules. This pin must be connected at all times. AVDD is connected to VDD.", 26 ~{MCLR} (in) "Master Clear (Reset) input. This pin is an active-low Reset to the  device.", 27 AN0/RA0 (io), 28 AN1/RA1 (io), 29 EP (power) "The metal plane at the bottom of the device is not connected to any pins and is recommended to be connected to VSS externally"

## DSPIC33FJ16GS402-50I/SO
designator U?
16-Bit Digital Signal Controller with High-Speed PWM, ADC, 50 MIPS, 21 I/O, GPIO, -40 to 85 degC, 28-pin SOIC (SO28), Tube; Manufacturer: Microchip; PartNumber: DSPIC33FJ16GS402-50I/SO; DatasheetVersion: Rev. F; PackageVersion: C04-052C; PackageReference: SOIC-SO28; PackageDescription: 28-Lead Plastic Small Outline, 17.9 x 7.5 mm Body, 1.27 mm Pitch; Supplier 1: Digi-Key; Supplier Part Number 1: DSPIC33FJ16GS402-50I/SO-ND; Supplier 2: Mouser; Supplier Part Number 2: 579-33F16GS40250ISO; Mounting Technology: Surface Mount; ComponentLink1Description: Manufacturer URL; ComponentLink1URL: http://www.microchip.com; ComponentLink2Description: Datasheet; ComponentLink2URL: http://ww1.microchip.com/downloads/en/DeviceDoc/70318F.pdf; ComponentLink3Description: Package Specification; ComponentLink3URL: http://www.microchip.com/stellent/groups/techpub_sg/documents/packagingspec/en012702.pdf; ComponentLink4Description: Product URL; ComponentLink4URL: http://www.microchip.com/dsPIC33FJ16GS402
footprint MCHP-SOIC-SO28_N (SOIC, 28-Leads, Body 17.9x7.5mm, Pitch 1.27mm, IPC Medium Density)
footprint MCHP-SOIC-SO28_L (SOIC, 28-Leads, Body 17.9x7.5mm, Pitch 1.27mm, IPC High Density)
footprint MCHP-SOIC-SO28_M (SOIC, 28-Leads, Body 17.9x7.5mm, Pitch 1.27mm, IPC Low Density)
pins: 1 ~{MCLR} (in) "Master Clear (Reset) input. This pin is an active-low Reset to the device.", 2 AN0/RA0 (io), 3 AN1/RA1 (io), 4 AN2/RA2 (io), 5 AN3/RP0/CN0/RB0 (io), 6 AN4/RP9/CN9/RB9 (io), 7 AN5/RP10/CN10/RB10 (io), 8 VSS (power) "Ground reference for logic and I/O pins.", 9 OSC1/CLKIN/AN6/RP1/CN1/RB1 (io), 10 OSC2/CLKO/AN7/RP2/CN2/RB2 (io), 11 PGED2/INT0/RP3/CN3/RB3 (io), 12 PGEC2/RP4/CN4/RB4 (io), 13 VDD (power) "Positive supply for peripheral logic and I/O pins.", 14 PGED3/RP8/CN8/RB8 (io), 15 PGEC3/RP15/CN15/RB15 (io), 16 TDO/RP5/CN5/RB5 (io), 17 PGED1/TDI/SCL/RP6/CN6/RB6 (io), 18 PGEC1/SDA/RP7/CN7/RB7 (io), 19 VSS (power) "Ground reference for logic and I/O pins.", 20 VCAP "CPU logic filter capacitor connection.", 21 TMS/PWM3H/RP11/CN11/RB11 (io), 22 TCK/PWM3L/RP12/CN12/RB12 (io), 23 PWM2H/RP13/CN13/RB13 (io), 24 PWM2L/RP14/CN14/RB14 (io), 25 PWM1H/RA4 (io), 26 PWM1L/RA3 (io), 27 AVSS (power) "Ground reference for analog modules. AVSS is connected to VSS in the 18-pin dsPIC33FJXXGP101 and 20-pin dsPIC33FJXXMC101 devices. In all  other devices, AVSS is separated from VSS.", 28 AVDD (power) "Positive supply for analog modules. This pin must be connected at all times.AVDD is connected to VDD in the 18-pin dsPIC33FJXXGP101 and 20-pin dsPIC33FJXXMC101 devices. In all other devices, AVDD is separated from VDD."

## DSPIC33FJ16GS402-50I/SP
designator U?
16-Bit Digital Signal Controller with High-Speed PWM, ADC, 50 MIPS, 21 I/O, GPIO, -40 to 85 degC, 28-pin SPDIP (SP28), Tube; Manufacturer: Microchip; PartNumber: DSPIC33FJ16GS402-50I/SP; DatasheetVersion: Rev. F; PackageVersion: C04-070B; PackageReference: SPDIP-SP28; PackageDescription: 28-Lead Plastic Dual In-Line, 34.86 x 6.79 mm Body, 2.54 mm Pitch; Supplier 1: Digi-Key; Supplier Part Number 1: DSPIC33FJ16GS402-50I/SP-ND; Supplier 2: Mouser; Supplier Part Number 2: 579-33F16GS40250ISP; Mounting Technology: Through Hole; ComponentLink1Description: Manufacturer URL; ComponentLink1URL: http://www.microchip.com; ComponentLink2Description: Datasheet; ComponentLink2URL: http://ww1.microchip.com/downloads/en/DeviceDoc/70318F.pdf; ComponentLink3Description: Package Specification; ComponentLink3URL: http://www.microchip.com/stellent/groups/techpub_sg/documents/packagingspec/en012702.pdf; ComponentLink4Description: Product URL; ComponentLink4URL: http://www.microchip.com/dsPIC33FJ16GS402
footprint MCHP-SPDIP-SP28 (DIP, 28-Leads, Body 34.86x6.79mm, Pitch 2.54mm)
pins: 1 ~{MCLR} (in) "Master Clear (Reset) input. This pin is an active-low Reset to the device.", 2 AN0/RA0 (io), 3 AN1/RA1 (io), 4 AN2/RA2 (io), 5 AN3/RP0/CN0/RB0 (io), 6 AN4/RP9/CN9/RB9 (io), 7 AN5/RP10/CN10/RB10 (io), 8 VSS (power) "Ground reference for logic and I/O pins.", 9 OSC1/CLKIN/AN6/RP1/CN1/RB1 (io), 10 OSC2/CLKO/AN7/RP2/CN2/RB2 (io), 11 PGED2/INT0/RP3/CN3/RB3 (io), 12 PGEC2/RP4/CN4/RB4 (io), 13 VDD (power) "Positive supply for peripheral logic and I/O pins.", 14 PGED3/RP8/CN8/RB8 (io), 15 PGEC3/RP15/CN15/RB15 (io), 16 TDO/RP5/CN5/RB5 (io), 17 PGED1/TDI/SCL/RP6/CN6/RB6 (io), 18 PGEC1/SDA/RP7/CN7/RB7 (io), 19 VSS (power) "Ground reference for logic and I/O pins.", 20 VCAP "CPU logic filter capacitor connection.", 21 TMS/PWM3H/RP11/CN11/RB11 (io), 22 TCK/PWM3L/RP12/CN12/RB12 (io), 23 PWM2H/RP13/CN13/RB13 (io), 24 PWM2L/RP14/CN14/RB14 (io), 25 PWM1H/RA4 (io), 26 PWM1L/RA3 (io), 27 AVSS (power) "Ground reference for analog modules. AVSS is connected to VSS in the 18-pin dsPIC33FJXXGP101 and 20-pin dsPIC33FJXXMC101 devices. In all  other devices, AVSS is separated from VSS.", 28 AVDD (power) "Positive supply for analog modules. This pin must be connected at all times.AVDD is connected to VDD in the 18-pin dsPIC33FJXXGP101 and 20-pin dsPIC33FJXXMC101 devices. In all other devices, AVDD is separated from VDD."

## DSPIC33FJ16GS402-E/MM
designator U?
High-Performance 16-bit Digital Signal Controller, 16 KB Flash, 2 KB RAM , 28-Pin QFN, Extended High Temperature; Manufacturer: Microchip; PartNumber: DSPIC33FJ16GS402-E/MM; DatasheetVersion: revD, Mar-2009; PackageVersion: revBB, Aug-2009; PackageReference: QFNS-MM28; PackageDescription: 28-Lead Plastic Quad Flat, No Lead Package (MM) - 6x6x0.9 mm Body [QFN-S] with 0.40 mm Contact Length; Supplier 1: Digi-Key; Supplier Part Number 1: DSPIC33FJ16GS402-E/MM-ND; Supplier 2: Mouser; Supplier Part Number 2: 579-DSPIC336GS402EMM; Mounting Technology: Surface Mount; ComponentLink1Description: Manufacturer URL; ComponentLink1URL: http://www.microchip.com/; ComponentLink2Description: Datasheet; ComponentLink2URL: http://ww1.microchip.com/downloads/en/DeviceDoc/70318D.pdf; ComponentLink3Description: Package Specification; ComponentLink3URL: http://www.microchip.com/stellent/groups/techpub_sg/documents/packagingspec/en012702.pdf
footprint QFNS-MM28_N (QFN, 28-Leads, Body 6x6mm, Pitch 0.65mm, Thermal Pad 4.7x4.7mm, IPC Medium Density)
footprint QFNS-MM28_L (QFN, 28-Leads, Body 6x6mm, Pitch 0.65mm, Thermal Pad 4.7x4.7mm, IPC High Density)
footprint QFNS-MM28_M (QFN, 28-Leads, Body 6x6mm, Pitch 0.65mm, Thermal Pad 4.7x4.7mm, IPC Low Density)
pins: 1 AN2/RA2 (io), 2 AN3/RP0/CN0/RB0 (io), 3 AN4/RP9/CN9/RB9 (io), 4 AN5/RP10/CN10/RB10 (io), 5 VSS (power), 6 OSC1/CLKIN/AN6/RP1/CN1/RB1 (io), 7 OSC2/CLKO/AN7/RP2/CN2/RB2 (io), 8 PGED2/INT0/RP3/CN3/RB3 (io), 9 PGEC2/RP4/CN4/RB4 (io), 10 VDD (power), 11 PGED3/RP8/CN8/RB8 (io), 12 PGEC3/RP15/CN15/RB15 (io), 13 TDO/RP5/CN5/RB5 (io), 14 PGED1/TDI/SCL/RP6/CN6/RB6 (io), 15 PGEC1/SDA/RP7/CN7/RB7 (io), 16 VSS (power), 17 VCAP/VDDCORE (power), 18 TMS/PWM3H/RP11/CN11/RB11 (io), 19 TCK/PWM3L/RP12/CN12/RB12 (io), 20 PWM2H/RP13/CN13/RB13 (io), 21 PWM2L/RP14/CN14/RB14 (io), 22 PWM1H/RA4 (io), 23 PWM1L/RA3 (io), 24 AVSS (power), 25 AVDD (power), 26 ~{MCLR} (in), 27 AN0/RA0 (io), 28 AN1/RA1 (io), 29 Thermal Pad

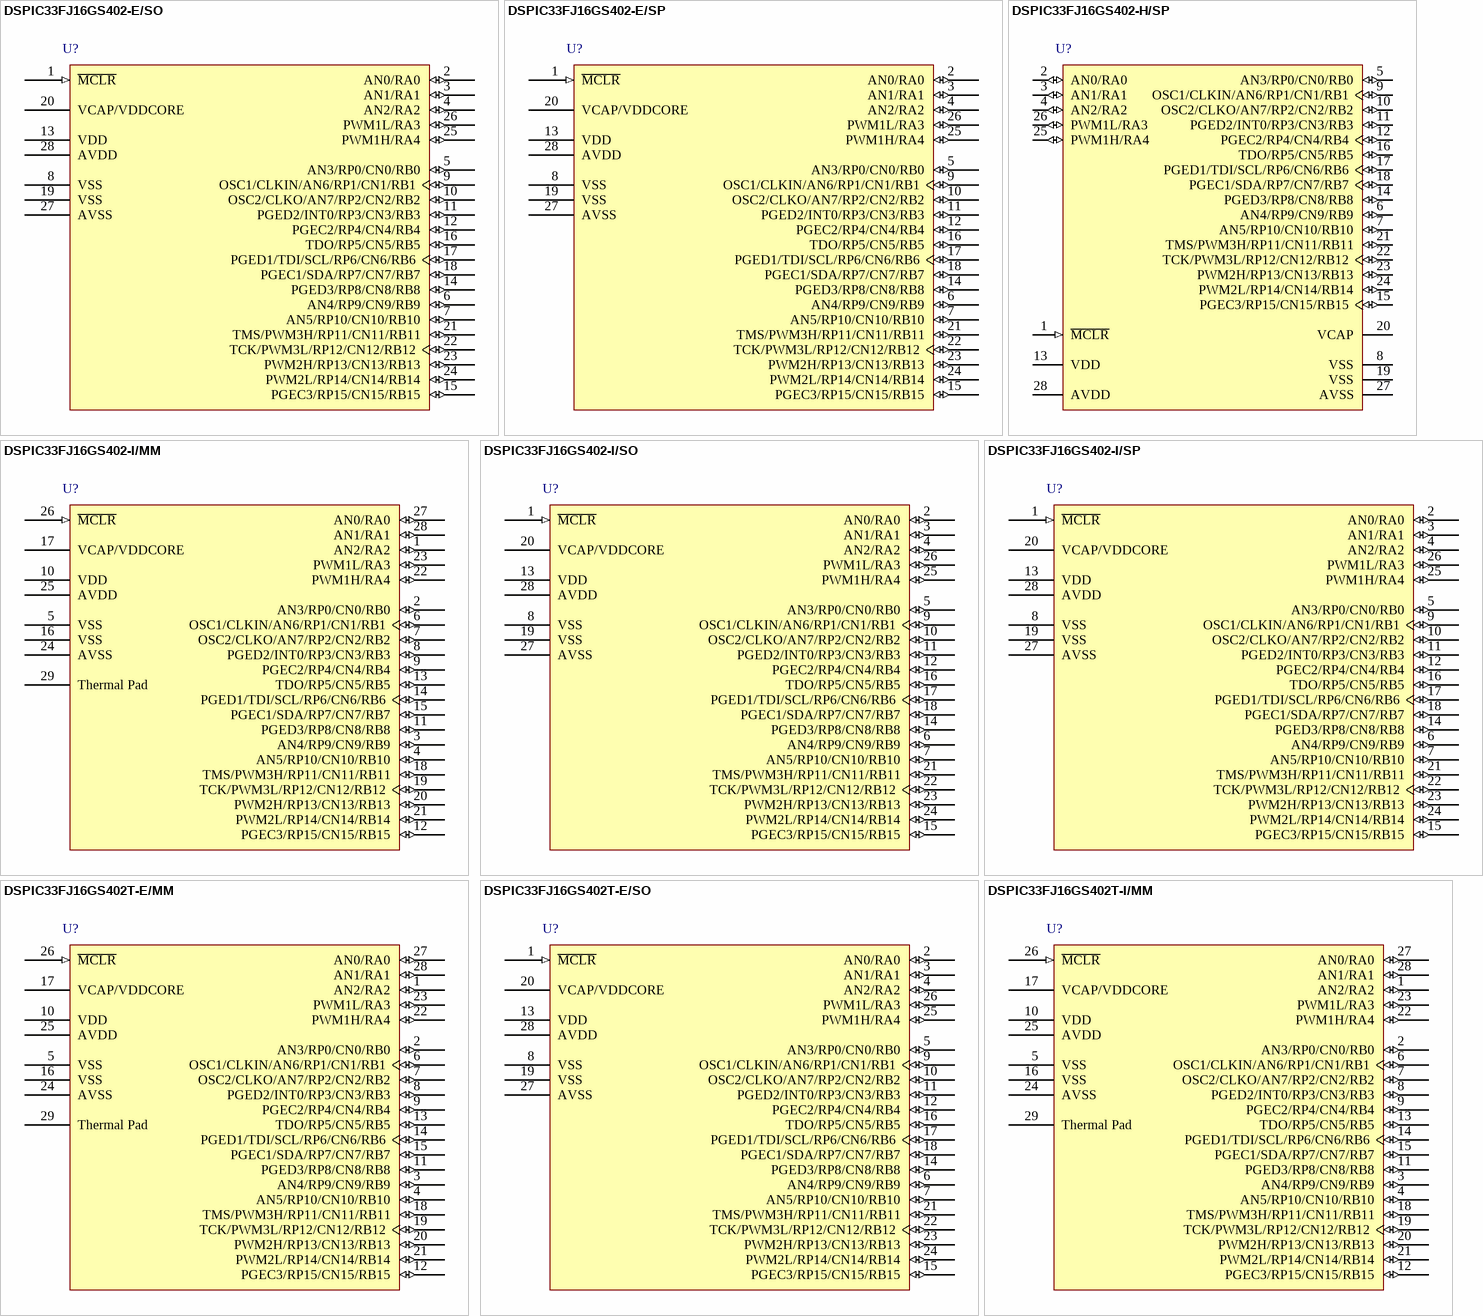
[diagram p12: symbols DSPIC33FJ16GS402-E/SO to DSPIC33FJ16GS402T-I/MM]

## DSPIC33FJ16GS402-E/SO
designator U?
High-Performance 16-bit Digital Signal Controller, 16 KB Flash, 2 KB RAM , 28-Pin SOIC, Extended High Temperature; Manufacturer: Microchip; PartNumber: DSPIC33FJ16GS402-E/SO; DatasheetVersion: revD, Mar-2009; PackageVersion: revBB, Aug-2009; PackageReference: SOIC-SO28; PackageDescription: 28-Lead Plastic Small Outline (SO) - Wide 7.50mm Body [SOIC]; Supplier 1: Digi-Key; Supplier Part Number 1: DSPIC33FJ16GS402-E/SO-ND; Supplier 2: Mouser; Supplier Part Number 2: 579-DSPIC336GS402ESO; Mounting Technology: Surface Mount; Code_JEDEC: MS-013; ComponentLink1Description: Manufacturer URL; ComponentLink1URL: http://www.microchip.com/; ComponentLink2Description: Datasheet; ComponentLink2URL: http://ww1.microchip.com/downloads/en/DeviceDoc/70318D.pdf; ComponentLink3Description: Package Specification; ComponentLink3URL: http://www.microchip.com/stellent/groups/techpub_sg/documents/packagingspec/en012702.pdf
footprint SOIC-SO28_N (SOIC, 28-Leads, Body 17.9x7.5mm, Pitch 1.27mm, IPC Medium Density)
footprint SOIC-SO28_L (SOIC, 28-Leads, Body 17.9x7.5mm, Pitch 1.27mm, IPC High Density)
footprint SOIC-SO28_M (SOIC, 28-Leads, Body 17.9x7.5mm, Pitch 1.27mm, IPC Low Density)
pins: 1 ~{MCLR} (in), 2 AN0/RA0 (io), 3 AN1/RA1 (io), 4 AN2/RA2 (io), 5 AN3/RP0/CN0/RB0 (io), 6 AN4/RP9/CN9/RB9 (io), 7 AN5/RP10/CN10/RB10 (io), 8 VSS (power), 9 OSC1/CLKIN/AN6/RP1/CN1/RB1 (io), 10 OSC2/CLKO/AN7/RP2/CN2/RB2 (io), 11 PGED2/INT0/RP3/CN3/RB3 (io), 12 PGEC2/RP4/CN4/RB4 (io), 13 VDD (power), 14 PGED3/RP8/CN8/RB8 (io), 15 PGEC3/RP15/CN15/RB15 (io), 16 TDO/RP5/CN5/RB5 (io), 17 PGED1/TDI/SCL/RP6/CN6/RB6 (io), 18 PGEC1/SDA/RP7/CN7/RB7 (io), 19 VSS (power), 20 VCAP/VDDCORE (power), 21 TMS/PWM3H/RP11/CN11/RB11 (io), 22 TCK/PWM3L/RP12/CN12/RB12 (io), 23 PWM2H/RP13/CN13/RB13 (io), 24 PWM2L/RP14/CN14/RB14 (io), 25 PWM1H/RA4 (io), 26 PWM1L/RA3 (io), 27 AVSS (power), 28 AVDD (power)

## DSPIC33FJ16GS402-E/SP
designator U?
High-Performance 16-bit Digital Signal Controller, 16 KB Flash, 2 KB RAM , 28-Pin SPDIP, Extended High Temperature; Manufacturer: Microchip; PartNumber: DSPIC33FJ16GS402-E/SP; DatasheetVersion: revD, Mar-2009; PackageVersion: revBB, Aug-2009; PackageReference: SPDIP300-SP28; PackageDescription: 28-Lead Skinny Plastic Dual In-Line (SP) - 300 mil Body [SPDIP]; Supplier 1: Digi-Key; Supplier Part Number 1: DSPIC33FJ16GS402-E/SP-ND; Supplier 2: Mouser; Supplier Part Number 2: 579-DSPIC336GS402ESP; Mounting Technology: Through Hole; ComponentLink1Description: Manufacturer URL; ComponentLink1URL: http://www.microchip.com/; ComponentLink2Description: Datasheet; ComponentLink2URL: http://ww1.microchip.com/downloads/en/DeviceDoc/70318D.pdf; ComponentLink3Description: Package Specification; ComponentLink3URL: http://www.microchip.com/stellent/groups/techpub_sg/documents/packagingspec/en012702.pdf
footprint SPDIP300-SP28 (DIP, 28-Leads, Row Spacing 7.62mm, Pitch 2.54mm, Body 34.9x6.8mm)
pins: 1 ~{MCLR} (in), 2 AN0/RA0 (io), 3 AN1/RA1 (io), 4 AN2/RA2 (io), 5 AN3/RP0/CN0/RB0 (io), 6 AN4/RP9/CN9/RB9 (io), 7 AN5/RP10/CN10/RB10 (io), 8 VSS (power), 9 OSC1/CLKIN/AN6/RP1/CN1/RB1 (io), 10 OSC2/CLKO/AN7/RP2/CN2/RB2 (io), 11 PGED2/INT0/RP3/CN3/RB3 (io), 12 PGEC2/RP4/CN4/RB4 (io), 13 VDD (power), 14 PGED3/RP8/CN8/RB8 (io), 15 PGEC3/RP15/CN15/RB15 (io), 16 TDO/RP5/CN5/RB5 (io), 17 PGED1/TDI/SCL/RP6/CN6/RB6 (io), 18 PGEC1/SDA/RP7/CN7/RB7 (io), 19 VSS (power), 20 VCAP/VDDCORE (power), 21 TMS/PWM3H/RP11/CN11/RB11 (io), 22 TCK/PWM3L/RP12/CN12/RB12 (io), 23 PWM2H/RP13/CN13/RB13 (io), 24 PWM2L/RP14/CN14/RB14 (io), 25 PWM1H/RA4 (io), 26 PWM1L/RA3 (io), 27 AVSS (power), 28 AVDD (power)

## DSPIC33FJ16GS402-H/SP
designator U?
16-Bit Digital Signal Controller with High-Speed PWM, ADC, and Comparators, 50 MIPS, 21 I/O, GPIO, -40 to >125 degC, 28-pin SPDIP (SP28), Tube; Manufacturer: Microchip; PartNumber: DSPIC33FJ16GS402-H/SP; DatasheetVersion: Rev. F; PackageVersion: C04-070B; PackageReference: SPDIP-SP28; PackageDescription: 28-Lead Plastic Dual In-Line, 34.86 x 6.79 mm Body, 2.54 mm Pitch; Supplier 1: Digi-Key; Supplier Part Number 1: DSPIC33FJ16GS402-H/SP-ND; Supplier 2: Newark; Supplier Part Number 2: 72T9424; Supplier 3: Mouser; Supplier Part Number 3: 579-PC33FJ16GS402HSP; Mounting Technology: Through Hole; ComponentLink1Description: Manufacturer URL; ComponentLink1URL: http://www.microchip.com; ComponentLink2Description: Datasheet; ComponentLink2URL: http://ww1.microchip.com/downloads/en/DeviceDoc/70318F.pdf; ComponentLink3Description: Package Specification; ComponentLink3URL: http://www.microchip.com/stellent/groups/techpub_sg/documents/packagingspec/en012702.pdf; ComponentLink4Description: Product URL; ComponentLink4URL: http://www.microchip.com/dsPIC33FJ16GS402
footprint MCHP-SPDIP-SP28 (DIP, 28-Leads, Body 34.86x6.79mm, Pitch 2.54mm)
pins: 1 ~{MCLR} (in) "Master Clear (Reset) input. This pin is an active-low Reset to the device.", 2 AN0/RA0 (io), 3 AN1/RA1 (io), 4 AN2/RA2 (io), 5 AN3/RP0/CN0/RB0 (io), 6 AN4/RP9/CN9/RB9 (io), 7 AN5/RP10/CN10/RB10 (io), 8 VSS (power) "Ground reference for logic and I/O pins.", 9 OSC1/CLKIN/AN6/RP1/CN1/RB1 (io), 10 OSC2/CLKO/AN7/RP2/CN2/RB2 (io), 11 PGED2/INT0/RP3/CN3/RB3 (io), 12 PGEC2/RP4/CN4/RB4 (io), 13 VDD (power) "Positive supply for peripheral logic and I/O pins.", 14 PGED3/RP8/CN8/RB8 (io), 15 PGEC3/RP15/CN15/RB15 (io), 16 TDO/RP5/CN5/RB5 (io), 17 PGED1/TDI/SCL/RP6/CN6/RB6 (io), 18 PGEC1/SDA/RP7/CN7/RB7 (io), 19 VSS (power) "Ground reference for logic and I/O pins.", 20 VCAP "CPU logic filter capacitor connection.", 21 TMS/PWM3H/RP11/CN11/RB11 (io), 22 TCK/PWM3L/RP12/CN12/RB12 (io), 23 PWM2H/RP13/CN13/RB13 (io), 24 PWM2L/RP14/CN14/RB14 (io), 25 PWM1H/RA4 (io), 26 PWM1L/RA3 (io), 27 AVSS (power) "Ground reference for analog modules. AVSS is connected to VSS in the 18-pin dsPIC33FJXXGP101 and 20-pin dsPIC33FJXXMC101 devices. In all  other devices, AVSS is separated from VSS.", 28 AVDD (power) "Positive supply for analog modules. This pin must be connected at all times.AVDD is connected to VDD in the 18-pin dsPIC33FJXXGP101 and 20-pin dsPIC33FJXXMC101 devices. In all other devices, AVDD is separated from VDD."

## DSPIC33FJ16GS402-I/MM
designator U?
High-Performance 16-bit Digital Signal Controller, 16 KB Flash, 2 KB RAM , 28-Pin QFN, Industrial Temperature; Manufacturer: Microchip; PartNumber: DSPIC33FJ16GS402-I/MM; DatasheetVersion: revD, Mar-2009; PackageVersion: revBB, Aug-2009; PackageReference: QFNS-MM28; PackageDescription: 28-Lead Plastic Quad Flat, No Lead Package (MM) - 6x6x0.9 mm Body [QFN-S] with 0.40 mm Contact Length; Supplier 1: Digi-Key; Supplier Part Number 1: DSPIC33FJ16GS402-I/MM-ND; Supplier 2: Mouser; Supplier Part Number 2: 579-DSPIC336GS402IMM; Mounting Technology: Surface Mount; ComponentLink1Description: Manufacturer URL; ComponentLink1URL: http://www.microchip.com/; ComponentLink2Description: Datasheet; ComponentLink2URL: http://ww1.microchip.com/downloads/en/DeviceDoc/70318D.pdf; ComponentLink3Description: Package Specification; ComponentLink3URL: http://www.microchip.com/stellent/groups/techpub_sg/documents/packagingspec/en012702.pdf
footprint QFNS-MM28_N (QFN, 28-Leads, Body 6x6mm, Pitch 0.65mm, Thermal Pad 4.7x4.7mm, IPC Medium Density)
footprint QFNS-MM28_L (QFN, 28-Leads, Body 6x6mm, Pitch 0.65mm, Thermal Pad 4.7x4.7mm, IPC High Density)
footprint QFNS-MM28_M (QFN, 28-Leads, Body 6x6mm, Pitch 0.65mm, Thermal Pad 4.7x4.7mm, IPC Low Density)
pins: 1 AN2/RA2 (io), 2 AN3/RP0/CN0/RB0 (io), 3 AN4/RP9/CN9/RB9 (io), 4 AN5/RP10/CN10/RB10 (io), 5 VSS (power), 6 OSC1/CLKIN/AN6/RP1/CN1/RB1 (io), 7 OSC2/CLKO/AN7/RP2/CN2/RB2 (io), 8 PGED2/INT0/RP3/CN3/RB3 (io), 9 PGEC2/RP4/CN4/RB4 (io), 10 VDD (power), 11 PGED3/RP8/CN8/RB8 (io), 12 PGEC3/RP15/CN15/RB15 (io), 13 TDO/RP5/CN5/RB5 (io), 14 PGED1/TDI/SCL/RP6/CN6/RB6 (io), 15 PGEC1/SDA/RP7/CN7/RB7 (io), 16 VSS (power), 17 VCAP/VDDCORE (power), 18 TMS/PWM3H/RP11/CN11/RB11 (io), 19 TCK/PWM3L/RP12/CN12/RB12 (io), 20 PWM2H/RP13/CN13/RB13 (io), 21 PWM2L/RP14/CN14/RB14 (io), 22 PWM1H/RA4 (io), 23 PWM1L/RA3 (io), 24 AVSS (power), 25 AVDD (power), 26 ~{MCLR} (in), 27 AN0/RA0 (io), 28 AN1/RA1 (io), 29 Thermal Pad

## DSPIC33FJ16GS402-I/SO
designator U?
High-Performance 16-bit Digital Signal Controller, 16 KB Flash, 2 KB RAM , 28-Pin SOIC, Industrial Temperature; Manufacturer: Microchip; PartNumber: DSPIC33FJ16GS402-I/SO; DatasheetVersion: revD, Mar-2009; PackageVersion: revBB, Aug-2009; PackageReference: SOIC-SO28; PackageDescription: 28-Lead Plastic Small Outline (SO) - Wide 7.50mm Body [SOIC]; Supplier 1: Digi-Key; Supplier Part Number 1: DSPIC33FJ16GS402-I/SO-ND; Supplier 2: Farnell; Supplier Part Number 2: 1778683; Supplier 3: Newark; Supplier Part Number 3: 77M2340; Supplier 4: Mouser; Supplier Part Number 4: N/A; Mounting Technology: Surface Mount; Code_JEDEC: MS-013; ComponentLink1Description: Manufacturer URL; ComponentLink1URL: http://www.microchip.com/; ComponentLink2Description: Datasheet; ComponentLink2URL: http://ww1.microchip.com/downloads/en/DeviceDoc/70318D.pdf; ComponentLink3Description: Package Specification; ComponentLink3URL: http://www.microchip.com/stellent/groups/techpub_sg/documents/packagingspec/en012702.pdf
footprint SOIC-SO28_N (SOIC, 28-Leads, Body 17.9x7.5mm, Pitch 1.27mm, IPC Medium Density)
footprint SOIC-SO28_L (SOIC, 28-Leads, Body 17.9x7.5mm, Pitch 1.27mm, IPC High Density)
footprint SOIC-SO28_M (SOIC, 28-Leads, Body 17.9x7.5mm, Pitch 1.27mm, IPC Low Density)
pins: 1 ~{MCLR} (in), 2 AN0/RA0 (io), 3 AN1/RA1 (io), 4 AN2/RA2 (io), 5 AN3/RP0/CN0/RB0 (io), 6 AN4/RP9/CN9/RB9 (io), 7 AN5/RP10/CN10/RB10 (io), 8 VSS (power), 9 OSC1/CLKIN/AN6/RP1/CN1/RB1 (io), 10 OSC2/CLKO/AN7/RP2/CN2/RB2 (io), 11 PGED2/INT0/RP3/CN3/RB3 (io), 12 PGEC2/RP4/CN4/RB4 (io), 13 VDD (power), 14 PGED3/RP8/CN8/RB8 (io), 15 PGEC3/RP15/CN15/RB15 (io), 16 TDO/RP5/CN5/RB5 (io), 17 PGED1/TDI/SCL/RP6/CN6/RB6 (io), 18 PGEC1/SDA/RP7/CN7/RB7 (io), 19 VSS (power), 20 VCAP/VDDCORE (power), 21 TMS/PWM3H/RP11/CN11/RB11 (io), 22 TCK/PWM3L/RP12/CN12/RB12 (io), 23 PWM2H/RP13/CN13/RB13 (io), 24 PWM2L/RP14/CN14/RB14 (io), 25 PWM1H/RA4 (io), 26 PWM1L/RA3 (io), 27 AVSS (power), 28 AVDD (power)

## DSPIC33FJ16GS402-I/SP
designator U?
High-Performance 16-bit Digital Signal Controller, 16 KB Flash, 2 KB RAM , 28-Pin SPDIP, Industrial Temperature; Manufacturer: Microchip; PartNumber: DSPIC33FJ16GS402-I/SP; DatasheetVersion: revD, Mar-2009; PackageVersion: revBB, Aug-2009; PackageReference: SPDIP300-SP28; PackageDescription: 28-Lead Skinny Plastic Dual In-Line (SP) - 300 mil Body [SPDIP]; Supplier 1: Digi-Key; Supplier Part Number 1: DSPIC33FJ16GS402-I/SP-ND; Supplier 2: Farnell; Supplier Part Number 2: 1778684; Supplier 3: Newark; Supplier Part Number 3: 77M2341; Supplier 4: Mouser; Supplier Part Number 4: 579-DSPIC336GS402ISP; Mounting Technology: Through Hole; ComponentLink1Description: Manufacturer URL; ComponentLink1URL: http://www.microchip.com/; ComponentLink2Description: Datasheet; ComponentLink2URL: http://ww1.microchip.com/downloads/en/DeviceDoc/70318D.pdf; ComponentLink3Description: Package Specification; ComponentLink3URL: http://www.microchip.com/stellent/groups/techpub_sg/documents/packagingspec/en012702.pdf
footprint SPDIP300-SP28 (DIP, 28-Leads, Row Spacing 7.62mm, Pitch 2.54mm, Body 34.9x6.8mm)
pins: 1 ~{MCLR} (in), 2 AN0/RA0 (io), 3 AN1/RA1 (io), 4 AN2/RA2 (io), 5 AN3/RP0/CN0/RB0 (io), 6 AN4/RP9/CN9/RB9 (io), 7 AN5/RP10/CN10/RB10 (io), 8 VSS (power), 9 OSC1/CLKIN/AN6/RP1/CN1/RB1 (io), 10 OSC2/CLKO/AN7/RP2/CN2/RB2 (io), 11 PGED2/INT0/RP3/CN3/RB3 (io), 12 PGEC2/RP4/CN4/RB4 (io), 13 VDD (power), 14 PGED3/RP8/CN8/RB8 (io), 15 PGEC3/RP15/CN15/RB15 (io), 16 TDO/RP5/CN5/RB5 (io), 17 PGED1/TDI/SCL/RP6/CN6/RB6 (io), 18 PGEC1/SDA/RP7/CN7/RB7 (io), 19 VSS (power), 20 VCAP/VDDCORE (power), 21 TMS/PWM3H/RP11/CN11/RB11 (io), 22 TCK/PWM3L/RP12/CN12/RB12 (io), 23 PWM2H/RP13/CN13/RB13 (io), 24 PWM2L/RP14/CN14/RB14 (io), 25 PWM1H/RA4 (io), 26 PWM1L/RA3 (io), 27 AVSS (power), 28 AVDD (power)

## DSPIC33FJ16GS402T-E/MM
designator U?
High-Performance 16-bit Digital Signal Controller, 16 KB Flash, 2 KB RAM , 28-Pin QFN, Extended High Temperature , Tape and Reel; Manufacturer: Microchip; PartNumber: DSPIC33FJ16GS402T-E/MM; DatasheetVersion: revD, Mar-2009; PackageVersion: revBB, Aug-2009; PackageReference: QFNS-MM28; PackageDescription: 28-Lead Plastic Quad Flat, No Lead Package (MM) - 6x6x0.9 mm Body [QFN-S] with 0.40 mm Contact Length; Mounting Technology: Surface Mount; ComponentLink1Description: Manufacturer URL; ComponentLink1URL: http://www.microchip.com/; ComponentLink2Description: Datasheet; ComponentLink2URL: http://ww1.microchip.com/downloads/en/DeviceDoc/70318D.pdf; ComponentLink3Description: Package Specification; ComponentLink3URL: http://www.microchip.com/stellent/groups/techpub_sg/documents/packagingspec/en012702.pdf
footprint QFNS-MM28_N (QFN, 28-Leads, Body 6x6mm, Pitch 0.65mm, Thermal Pad 4.7x4.7mm, IPC Medium Density)
footprint QFNS-MM28_L (QFN, 28-Leads, Body 6x6mm, Pitch 0.65mm, Thermal Pad 4.7x4.7mm, IPC High Density)
footprint QFNS-MM28_M (QFN, 28-Leads, Body 6x6mm, Pitch 0.65mm, Thermal Pad 4.7x4.7mm, IPC Low Density)
pins: 1 AN2/RA2 (io), 2 AN3/RP0/CN0/RB0 (io), 3 AN4/RP9/CN9/RB9 (io), 4 AN5/RP10/CN10/RB10 (io), 5 VSS (power), 6 OSC1/CLKIN/AN6/RP1/CN1/RB1 (io), 7 OSC2/CLKO/AN7/RP2/CN2/RB2 (io), 8 PGED2/INT0/RP3/CN3/RB3 (io), 9 PGEC2/RP4/CN4/RB4 (io), 10 VDD (power), 11 PGED3/RP8/CN8/RB8 (io), 12 PGEC3/RP15/CN15/RB15 (io), 13 TDO/RP5/CN5/RB5 (io), 14 PGED1/TDI/SCL/RP6/CN6/RB6 (io), 15 PGEC1/SDA/RP7/CN7/RB7 (io), 16 VSS (power), 17 VCAP/VDDCORE (power), 18 TMS/PWM3H/RP11/CN11/RB11 (io), 19 TCK/PWM3L/RP12/CN12/RB12 (io), 20 PWM2H/RP13/CN13/RB13 (io), 21 PWM2L/RP14/CN14/RB14 (io), 22 PWM1H/RA4 (io), 23 PWM1L/RA3 (io), 24 AVSS (power), 25 AVDD (power), 26 ~{MCLR} (in), 27 AN0/RA0 (io), 28 AN1/RA1 (io), 29 Thermal Pad

## DSPIC33FJ16GS402T-E/SO
designator U?
High-Performance 16-bit Digital Signal Controller, 16 KB Flash, 2 KB RAM , 28-Pin SOIC, Extended High Temperature , Tape and Reel; Manufacturer: Microchip; PartNumber: DSPIC33FJ16GS402T-E/SO; DatasheetVersion: revD, Mar-2009; PackageVersion: revBB, Aug-2009; PackageReference: SOIC-SO28; PackageDescription: 28-Lead Plastic Small Outline (SO) - Wide 7.50mm Body [SOIC]; Mounting Technology: Surface Mount; Code_JEDEC: MS-013; ComponentLink1Description: Manufacturer URL; ComponentLink1URL: http://www.microchip.com/; ComponentLink2Description: Datasheet; ComponentLink2URL: http://ww1.microchip.com/downloads/en/DeviceDoc/70318D.pdf; ComponentLink3Description: Package Specification; ComponentLink3URL: http://www.microchip.com/stellent/groups/techpub_sg/documents/packagingspec/en012702.pdf
footprint SOIC-SO28_N (SOIC, 28-Leads, Body 17.9x7.5mm, Pitch 1.27mm, IPC Medium Density)
footprint SOIC-SO28_L (SOIC, 28-Leads, Body 17.9x7.5mm, Pitch 1.27mm, IPC High Density)
footprint SOIC-SO28_M (SOIC, 28-Leads, Body 17.9x7.5mm, Pitch 1.27mm, IPC Low Density)
pins: 1 ~{MCLR} (in), 2 AN0/RA0 (io), 3 AN1/RA1 (io), 4 AN2/RA2 (io), 5 AN3/RP0/CN0/RB0 (io), 6 AN4/RP9/CN9/RB9 (io), 7 AN5/RP10/CN10/RB10 (io), 8 VSS (power), 9 OSC1/CLKIN/AN6/RP1/CN1/RB1 (io), 10 OSC2/CLKO/AN7/RP2/CN2/RB2 (io), 11 PGED2/INT0/RP3/CN3/RB3 (io), 12 PGEC2/RP4/CN4/RB4 (io), 13 VDD (power), 14 PGED3/RP8/CN8/RB8 (io), 15 PGEC3/RP15/CN15/RB15 (io), 16 TDO/RP5/CN5/RB5 (io), 17 PGED1/TDI/SCL/RP6/CN6/RB6 (io), 18 PGEC1/SDA/RP7/CN7/RB7 (io), 19 VSS (power), 20 VCAP/VDDCORE (power), 21 TMS/PWM3H/RP11/CN11/RB11 (io), 22 TCK/PWM3L/RP12/CN12/RB12 (io), 23 PWM2H/RP13/CN13/RB13 (io), 24 PWM2L/RP14/CN14/RB14 (io), 25 PWM1H/RA4 (io), 26 PWM1L/RA3 (io), 27 AVSS (power), 28 AVDD (power)

## DSPIC33FJ16GS402T-I/MM
designator U?
High-Performance 16-bit Digital Signal Controller, 16 KB Flash, 2 KB RAM , 28-Pin QFN, Industrial Temperature , Tape and Reel; Manufacturer: Microchip; PartNumber: DSPIC33FJ16GS402T-I/MM; DatasheetVersion: revD, Mar-2009; PackageVersion: revBB, Aug-2009; PackageReference: QFNS-MM28; PackageDescription: 28-Lead Plastic Quad Flat, No Lead Package (MM) - 6x6x0.9 mm Body [QFN-S] with 0.40 mm Contact Length; Supplier 1: Digi-Key; Supplier Part Number 1: DSPIC33FJ16GS402T-I/MM-ND; Supplier 2: Mouser; Supplier Part Number 2: 579-DSPIC33GS402TIMM; Mounting Technology: Surface Mount; ComponentLink1Description: Manufacturer URL; ComponentLink1URL: http://www.microchip.com/; ComponentLink2Description: Datasheet; ComponentLink2URL: http://ww1.microchip.com/downloads/en/DeviceDoc/70318D.pdf; ComponentLink3Description: Package Specification; ComponentLink3URL: http://www.microchip.com/stellent/groups/techpub_sg/documents/packagingspec/en012702.pdf
footprint QFNS-MM28_N (QFN, 28-Leads, Body 6x6mm, Pitch 0.65mm, Thermal Pad 4.7x4.7mm, IPC Medium Density)
footprint QFNS-MM28_L (QFN, 28-Leads, Body 6x6mm, Pitch 0.65mm, Thermal Pad 4.7x4.7mm, IPC High Density)
footprint QFNS-MM28_M (QFN, 28-Leads, Body 6x6mm, Pitch 0.65mm, Thermal Pad 4.7x4.7mm, IPC Low Density)
pins: 1 AN2/RA2 (io), 2 AN3/RP0/CN0/RB0 (io), 3 AN4/RP9/CN9/RB9 (io), 4 AN5/RP10/CN10/RB10 (io), 5 VSS (power), 6 OSC1/CLKIN/AN6/RP1/CN1/RB1 (io), 7 OSC2/CLKO/AN7/RP2/CN2/RB2 (io), 8 PGED2/INT0/RP3/CN3/RB3 (io), 9 PGEC2/RP4/CN4/RB4 (io), 10 VDD (power), 11 PGED3/RP8/CN8/RB8 (io), 12 PGEC3/RP15/CN15/RB15 (io), 13 TDO/RP5/CN5/RB5 (io), 14 PGED1/TDI/SCL/RP6/CN6/RB6 (io), 15 PGEC1/SDA/RP7/CN7/RB7 (io), 16 VSS (power), 17 VCAP/VDDCORE (power), 18 TMS/PWM3H/RP11/CN11/RB11 (io), 19 TCK/PWM3L/RP12/CN12/RB12 (io), 20 PWM2H/RP13/CN13/RB13 (io), 21 PWM2L/RP14/CN14/RB14 (io), 22 PWM1H/RA4 (io), 23 PWM1L/RA3 (io), 24 AVSS (power), 25 AVDD (power), 26 ~{MCLR} (in), 27 AN0/RA0 (io), 28 AN1/RA1 (io), 29 Thermal Pad

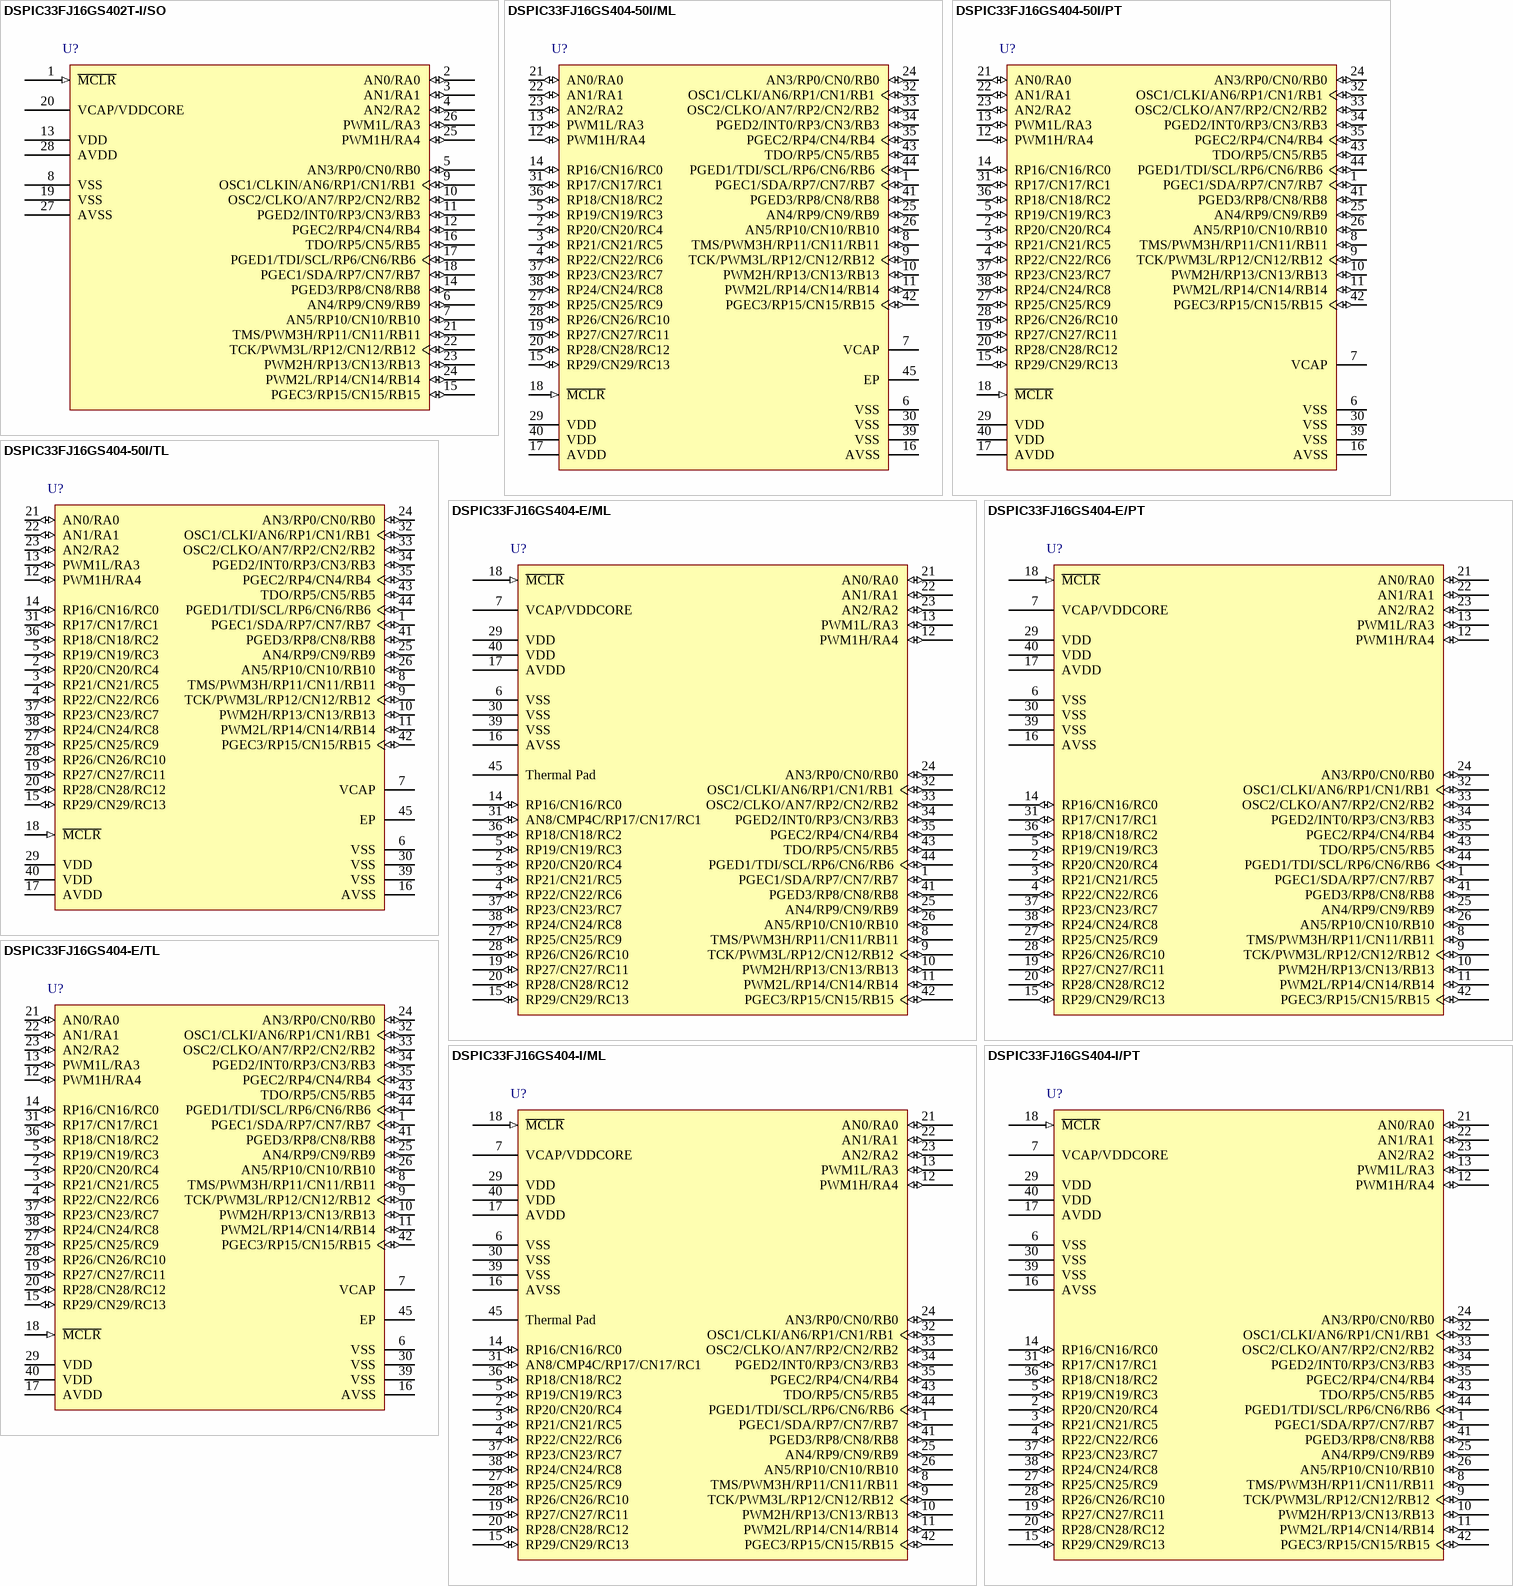
[diagram p13: symbols DSPIC33FJ16GS402T-I/SO to DSPIC33FJ16GS404-I/PT]